# Altium footprint library MOD_LEPTON_3.5_ADAPTER.PcbLib: 1 footprints
Each footprint in its own frame and in the unit in brackets; x right, y up, seen from the top. Pads: shape width x height; smd on the part's side, far side on the other; paste and mask are expansions set on the pad; w line width, h text height; cw(c..) or ccw(c..) is an arc to the next point about the centre after c.
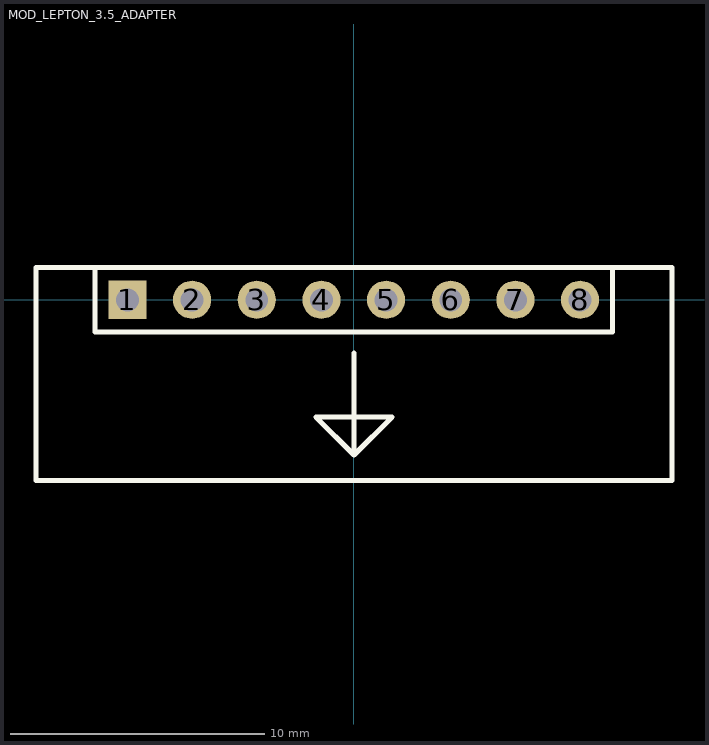
[diagram p0: the footprint, top view; thin cyan lines are the x and y axes]

## MOD_LEPTON_3.5_ADAPTER [mm]
pads (8):
  rect 1.5x1.5 hole 0.9: 1(-8.89,0)
  round 1.5 hole 0.9: 2(-6.35,0) 3(-3.81,0) 4(-1.27,0) 5(1.27,0) 6(3.81,0) 7(6.35,0) 8(8.89,0)
Top Overlay:
  lines w0.2: 0.01,-2.1 0.01,-6.1 ; -10.16,1.27 10.16,1.27 ; -10.16,1.27 -10.16,-1.27 10.16,-1.27 10.16,1.27 ; -10.16,1.27 -12.49,1.27 -12.49,-7.1 12.51,-7.1 12.51,1.27 10.16,1.27 ; 0.01,-6.1 -1.49,-4.6 1.51,-4.6 0.01,-6.1
Mechanical 17:
  text "'.Designator'" at -9.282,-0.479 h1
Mechanical 19:
  text "'.Comment'" at -9.282,-0.479 h1
3D body "User Library-Header _Fem_1X8.step": height 8.5, standoff -3.2, extent -10.414,-1.27 10.406,1.27
3D body "LeptonAdaptor.step": height 32.7, standoff 2.64, extent -12.5,-7.112 12.5,1.314